# EAGLE library part QUECTEL_M72 (library gps-gsm)
Moduł GSM/GPRS// http://www.meraprojekt.com.pl/files/quectel/M72_HD_V1.1.pdf
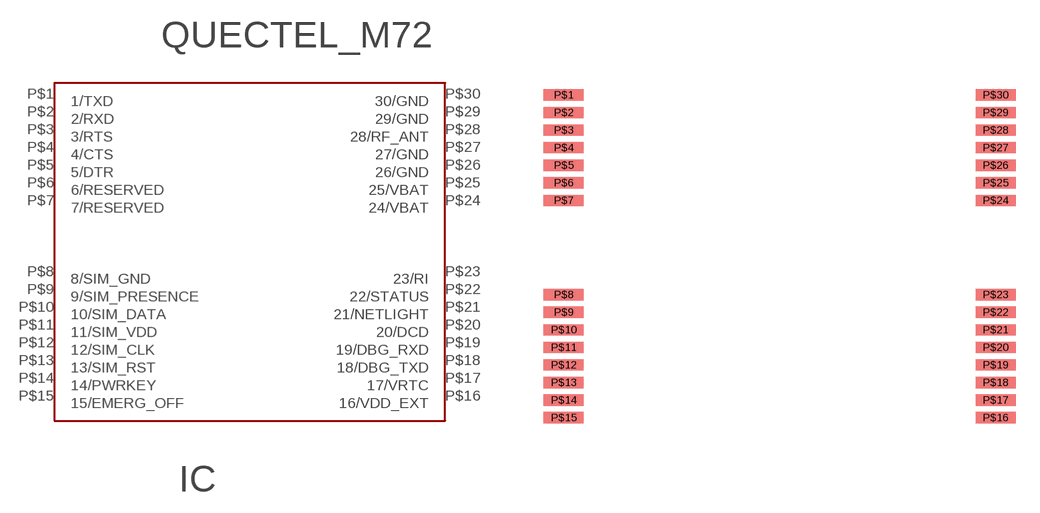
[diagram p15: symbol with the pads of M72; footprint M72]

Designator prefix IC

## QUECTEL_M72  [M72]
P$1  1/TXD
P$2  2/RXD
P$3  3/RTS
P$4  4/CTS
P$5  5/DTR
P$6  6/RESERVED
P$7  7/RESERVED
P$8  8/SIM_GND  pwr
P$9  9/SIM_PRESENCE
P$10  10/SIM_DATA
P$11  11/SIM_VDD  pwr
P$12  12/SIM_CLK
P$13  13/SIM_RST
P$14  14/PWRKEY
P$15  15/EMERG_OFF
P$16  16/VDD_EXT  pwr
P$17  17/VRTC
P$18  18/DBG_TXD
P$19  19/DBG_RXD
P$20  20/DCD
P$21  21/NETLIGHT
P$22  22/STATUS
P$23  23/RI
P$24  24/VBAT
P$25  25/VBAT
P$26  26/GND  pwr
P$27  27/GND  pwr
P$28  28/RF_ANT
P$29  29/GND  pwr
P$30  30/GND  pwr

## Footprint M72 (pad centres in mm)
smd 2.5 x 0.7: P$1 -13.51,9.55; P$2 -13.51,8.45; P$3 -13.51,7.35; P$4 -13.51,6.25; P$5 -13.51,5.15; P$6 -13.51,4.05; P$7 -13.51,2.95; P$8 -13.51,-2.95; P$9 -13.51,-4.05; P$10 -13.51,-5.15; P$11 -13.51,-6.25; P$12 -13.51,-7.35; P$13 -13.51,-8.45; P$14 -13.51,-9.55; P$15 -13.51,-10.65; P$16 13.51,-10.65; P$17 13.51,-9.55; P$18 13.51,-8.45; P$19 13.51,-7.35; P$20 13.51,-6.25; P$21 13.51,-5.15; P$22 13.51,-4.05; P$23 13.51,-2.95; P$24 13.51,2.95; P$25 13.51,4.05; P$26 13.51,5.15; P$27 13.51,6.25; P$28 13.51,7.35; P$29 13.51,8.45; P$30 13.51,9.55